# EAGLE library part 53?-08 (library con-molex_MOD)
CONNECTOR wire to board 1.25 mm (.049 inch) pitch header
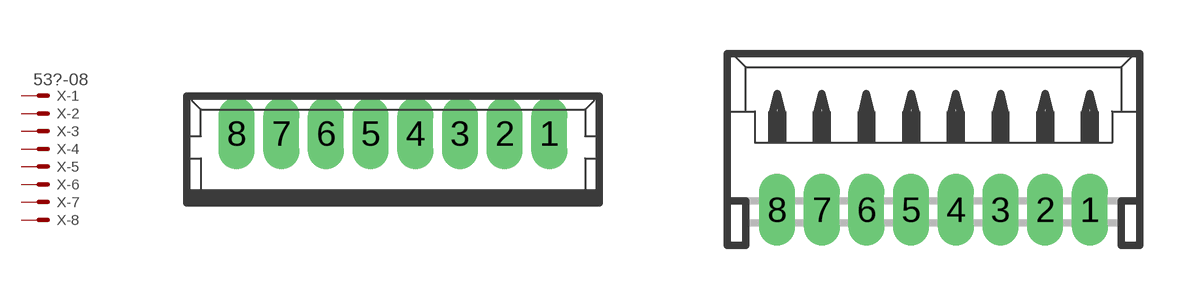
[diagram p11: symbol with the pads of 53047-08; footprints 53047-08, 53048-08]

Designator prefix X; gates -1=MV -2=M -3=M -4=M -5=M -6=M -7=M -8=M

## 53047-08 (MPN: 53047-0810; OC_FARNELL: 1012258; OC_NEWARK: 98K9826)  [53047-08]
1  -1:S  pas
2  -2:S  pas
3  -3:S  pas
4  -4:S  pas
5  -5:S  pas
6  -6:S  pas
7  -7:S  pas
8  -8:S  pas

## 53048-08 (MF: WALDOM/MOLEX; MPN: 53048-0810; OC_FARNELL: 9733094; OC_NEWARK: 38C9913)  [53048-08]
Pads as for 53047-08

## 53261-08 (OC_FARNELL: 1125376; OC_NEWARK: unknown)  [53261-08]
Pads as for 53047-08

## 53398-08 (OC_FARNELL: 1125371; OC_NEWARK: unknown)  [53398-08]
Pads as for 53047-08

## Footprint 53047-08 (pad centres in mm)
CONNECTOR wire to board 1.25 mm (.049 inch) pitch header straight Sourcxe: http://www.molex.com/pdm_docs/sd/530470210_sd.pdf
drill 0.5 pad 0.698 long: 1 4.375,0.45; 2 3.125,0.45; 3 1.875,0.45; 4 0.625,0.45; 5 -0.625,0.45; 6 -1.875,0.45; 7 -3.125,0.45; 8 -4.375,0.45

## Footprint 53048-08 (pad centres in mm)
CONNECTOR wire to board 1.25 mm (.049 inch) pitch header right angle
drill 0.5 pad 0.698 long: 1 4.375,-1.25; 2 3.125,-1.25; 3 1.875,-1.25; 4 0.625,-1.25; 5 -0.625,-1.25; 6 -1.875,-1.25; 7 -3.125,-1.25; 8 -4.375,-1.25

## Footprint 53261-08 (pad centres in mm)
CONNECTOR wire to board 1.25 mm (.049 inch) pitch header SMT right angle
smd 0.8 x 2: 1 4.375,-2.5; 2 3.125,-2.5; 3 1.875,-2.5; 4 0.625,-2.5; 5 -0.625,-2.5; 6 -1.875,-2.5; 7 -3.125,-2.5; 8 -4.375,-2.5
smd 2.1 x 3: S1 6.875,0.625; S2 -6.875,0.625

## Footprint 53398-08 (pad centres in mm)
CONNECTOR wire to board 1.25 mm (.049 inch) pitch header SMT straight
smd 0.8 x 1.8: 1 4.375,-2.5; 2 3.125,-2.5; 3 1.875,-2.5; 4 0.625,-2.5; 5 -0.625,-2.5; 6 -1.875,-2.5; 7 -3.125,-2.5; 8 -4.375,-2.5
smd 2.1 x 3: S1 6.875,0.625; S2 -6.875,0.625